# Altium schematic symbol library WSR33L000FEA.Schlib: 1 symbol
Pins are listed as number, name and electrical type; pins without a type are passive.

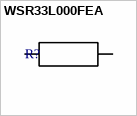
[diagram p0: symbol WSR33L000FEA]

## WSR33L000FEA
designator R?
Resistor
pins: 1, 2